# Altium schematic symbol library Sch_Conectores.SchLib: 7 symbols
Pins are listed as number, name and electrical type; pins without a type are passive.

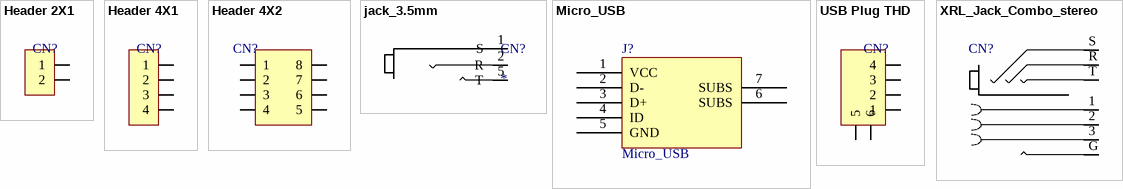
[diagram p0: symbols Header 2X1 to XRL_Jack_Combo_stereo]

## Header 2X1
designator CN?  (value not drawn)
Cod. Proveedor: *; Encapsulado: *; Link: *; Proveedor: *; Fabricante: *
pins: 2 1, 2

## Header 4X1
designator CN?  (value not drawn)
Cod. Proveedor: *; Encapsulado: *; Link: *; Proveedor: *; Fabricante: *
footprint Header 4x1
pins: 1, 2, 3, 4

## Header 4X2
designator CN?  (value not drawn)
Cod. Proveedor: *; Encapsulado: *; Link: *; Proveedor: *; Fabricante: *
footprint Header 4x2
pins: 1, 2, 3, 4, 5, 6, 7, 8

## jack_3.5mm
designator CN?
Cod. Proveedor: *; Encapsulado: *; Link: *; Proveedor: *; Fabricante: *
footprint Jack 3.5mm
pins: 1 S, 2 R, 5 T

## Micro_USB
designator J?
Conector micro USB tipo B; Cod. Proveedor: CO4821095; Proveedor: Elemon; Encapsulado: SMD B TYPE SIDE ENTRY; Link: *; Fabricante: *
footprint Micro_USB
footprint USB Type B (Molex 67068-XX1X); pin to pad 7>6
pins: 1 VCC, 2 D-, 3 D+, 4 ID, 5 GND, 6 SUBS, 7 SUBS

## USB Plug THD
designator CN?  (value not drawn)
0480370001; Cod. Proveedor: *; Encapsulado: *; Link: *; Proveedor: *; Fabricante: *
footprint USB hembra
pins: 1, 2, 3, 4, 5, 6

## XRL_Jack_Combo_stereo
designator CN?  (value not drawn)
Cod. Proveedor: *; Encapsulado: *; Proveedor: *; Link: *; Fabricante: *
footprint Combo XLR Jack
pins: 1, 2, 3, G, R, S, T